# EAGLE library part R-BUS-SIL-7 (library Skoba)
SIL RESISTOR
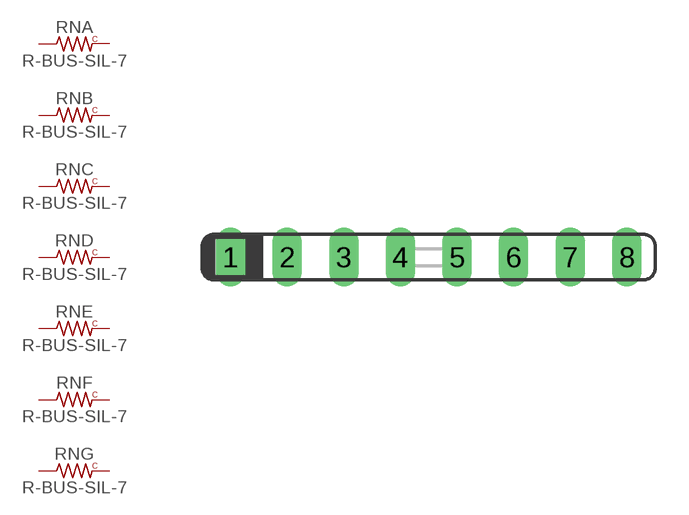
[diagram p55: symbol with the pads of SIL8; footprint SIL8]

Designator prefix RN; gates A=R-US-COM B=R-US-1-COM C=R-US-1-COM D=R-US-1-COM E=R-US-1-COM F=R-US-1-COM G=R-US-1-COM

## R-BUS-SIL-7  [SIL8]
1  A:COM  pas
2  A:1  pas
3  B:1  pas
4  C:1  pas
5  D:1  pas
6  E:1  pas
7  F:1  pas
8  G:1  pas

## Footprint SIL8 (pad centres in mm)
Single In Line
drill 0.813 long: 1 -8.89,0; 2 -6.35,0; 3 -3.81,0; 4 -1.27,0; 5 1.27,0; 6 3.81,0; 7 6.35,0; 8 8.89,0